# EAGLE library part AMP-1241150-10 (library jason-test)
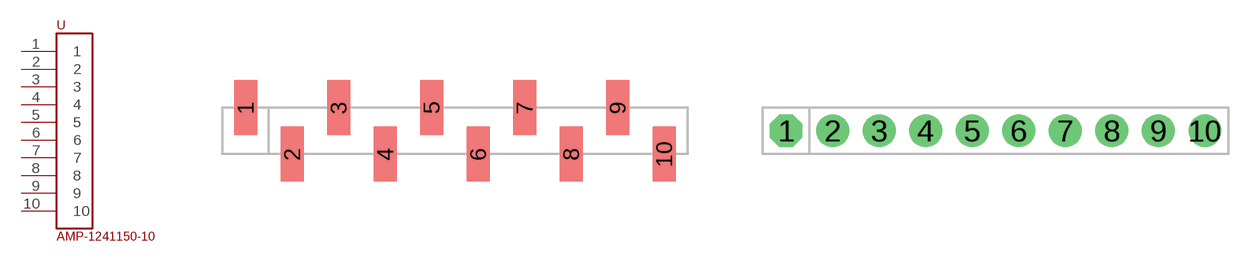
[diagram p26: symbol with the pads of AMP-1241150-10; footprints AMP-1241150-10, AMP-1241150-10T]

Designator prefix -

## AMP-1241150-10SMD  [AMP-1241150-10]
1  1
2  2
3  3
4  4
5  5
6  6
7  7
8  8
9  9
10  10

## AMP-1241150-10PTH  [AMP-1241150-10T]
Pads as for AMP-1241150-10

## Footprint AMP-1241150-10 (pad centres in mm)
smd 1.27 x 3: 1 -11.43,1.27; 2 -8.89,-1.27; 3 -6.35,1.27; 4 -3.81,-1.27; 5 -1.27,1.27; 6 1.27,-1.27; 7 3.81,1.27; 8 6.35,-1.27; 9 8.89,1.27; 10 11.43,-1.27

## Footprint AMP-1241150-10T (pad centres in mm)
drill 1 pad 1.778 octagon: 1 -11.43,0
drill 1 pad 1.778 round: 2 -8.89,0; 3 -6.35,0; 4 -3.81,0; 5 -1.27,0; 6 1.27,0; 7 3.81,0; 8 6.35,0; 9 8.89,0; 10 11.43,0